# Altium integrated library stm32f4.IntLib: 4 symbols
Pins are listed as number, name and electrical type; pins without a type are passive.

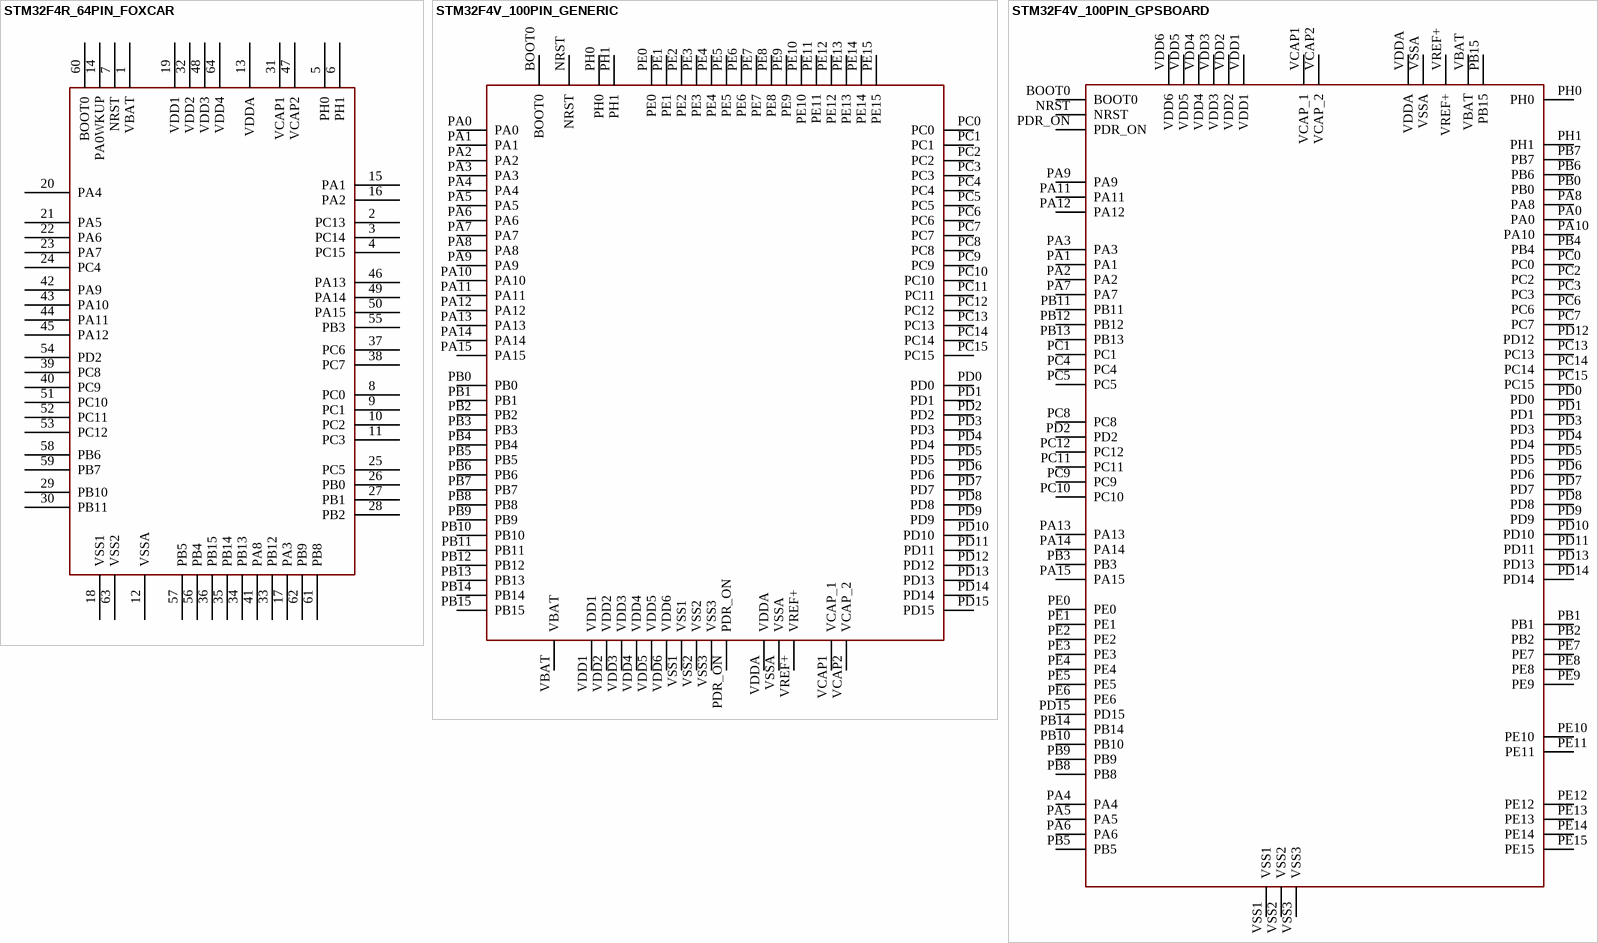
[diagram p0: symbols STM32F4R_64PIN_FOXCAR to STM32F4V_100PIN_GPSBOARD]

## STM32F4R_64PIN_FOXCAR
designator ?, comment 64-pin STM32F4 chip with symbol for Foxcar Control Board v1.  (value not drawn)
GateName_1: G$1; SymbolName_1: STM32F4_64PINS_FOXCARV1; DeviceSetName: STM32F4R_64PIN_FOXCAR; LibraryName: stm32f4; Package: LQFP64
footprint LQFP64
pins: 1 VBAT, 2 PC13, 3 PC14, 4 PC15, 5 PH0, 6 PH1, 7 NRST, 8 PC0, 9 PC1, 10 PC2, 11 PC3, 12 VSSA, 13 VDDA, 14 PA0WKUP, 15 PA1, 16 PA2, 17 PA3, 18 VSS1, 19 VDD1, 20 PA4, 21 PA5, 22 PA6, 23 PA7, 24 PC4, 25 PC5, 26 PB0, 27 PB1, 28 PB2, 29 PB10, 30 PB11, 31 VCAP1, 32 VDD2, 33 PB12, 34 PB13, 35 PB14, 36 PB15, 37 PC6, 38 PC7, 39 PC8, 40 PC9, 41 PA8, 42 PA9, 43 PA10, 44 PA11, 45 PA12, 46 PA13, 47 VCAP2, 48 VDD3, 49 PA14, 50 PA15, 51 PC10, 52 PC11, 53 PC12, 54 PD2, 55 PB3, 56 PB4, 57 PB5, 58 PB6, 59 PB7, 60 BOOT0, 61 PB8, 62 PB9, 63 VSS2, 64 VDD4

## STM32F4V_100PIN_GENERIC
designator ?
GateName_1: G$1; SymbolName_1: STM32F4_100PINS_FUNCTIONAL; DeviceSetName: STM32F4V_100PIN_GENERIC; LibraryName: stm32f4; Package: LQFP100
footprint LQFP100
pins: BOOT0, NRST, PA0, PA1, PA2, PA3, PA4, PA5, PA6, PA7, PA8, PA9, PA10, PA11, PA12, PA13, PA14, PA15, PB0, PB1, PB2, PB3, PB4, PB5, PB6, PB7, PB8, PB9, PB10, PB11, PB12, PB13, PB14, PB15, PC0, PC1, PC2, PC3, PC4, PC5, PC6, PC7, PC8, PC9, PC10, PC11, PC12, PC13, PC14, PC15, PD0, PD1, PD2, PD3, PD4, PD5, PD6, PD7, PD8, PD9, PD10, PD11, PD12, PD13, PD14, PD15, PDR_ON, PE0, PE1, PE2, PE3, PE4, PE5, PE6, PE7, PE8, PE9, PE10, PE11, PE12, PE13, PE14, PE15, PH0, PH1, VBAT, VCAP1 VCAP_1, VCAP2 VCAP_2, VDD1, VDD2, VDD3, VDD4, VDD5, VDD6, VDDA, VREF+, VSS1, VSS2, VSS3, VSSA

## STM32F4V_100PIN_GPSBOARD
designator ?, comment Custom symbol of 100-pin STM32F407 for GPS RF front-end board. Standard LQFP100 package.  (value not drawn)
GateName_1: G$1; SymbolName_1: STM32F4_100PIN_GPSBOARD; DeviceSetName: STM32F4V_100PIN_GPSBOARD; LibraryName: stm32f4; Package: LQFP100
footprint LQFP100
pins: BOOT0, NRST, PA0, PA1, PA2, PA3, PA4, PA5, PA6, PA7, PA8, PA9, PA10, PA11, PA12, PA13, PA14, PA15, PB0, PB1, PB2, PB3, PB4, PB5, PB6, PB7, PB8, PB9, PB10, PB11, PB12, PB13, PB14, PB15, PC0, PC1, PC2, PC3, PC4, PC5, PC6, PC7, PC8, PC9, PC10, PC11, PC12, PC13, PC14, PC15, PD0, PD1, PD2, PD3, PD4, PD5, PD6, PD7, PD8, PD9, PD10, PD11, PD12, PD13, PD14, PD15, PDR_ON, PE0, PE1, PE2, PE3, PE4, PE5, PE6, PE7, PE8, PE9, PE10, PE11, PE12, PE13, PE14, PE15, PH0, PH1, VBAT, VCAP1 VCAP_1, VCAP2 VCAP_2, VDD1 (power), VDD2 (power), VDD3 (power), VDD4 (power), VDD5 (power), VDD6 (power), VDDA, VREF+, VSS1 (power), VSS2 (power), VSS3 (power), VSSA

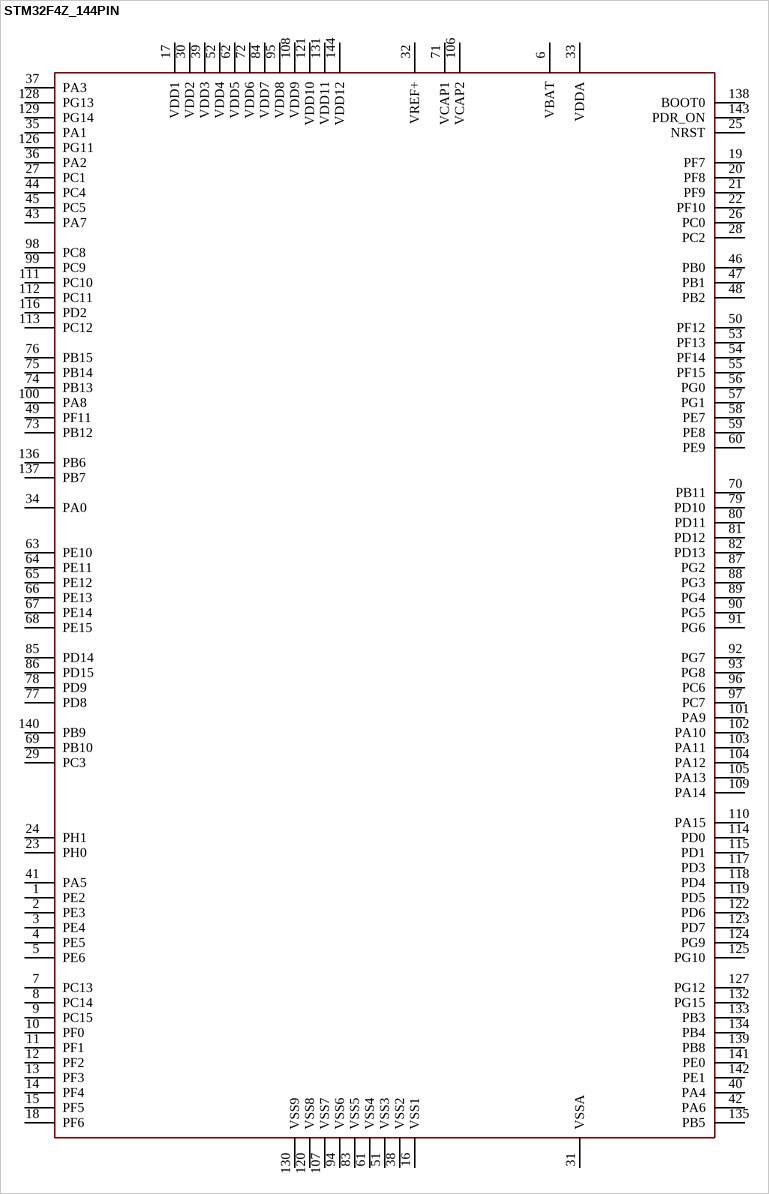
[diagram p1: symbol STM32F4Z_144PIN]

## STM32F4Z_144PIN
designator ?, comment STM32F4XX LQFP packages with actual and functional symbols.  (value not drawn)
GateName_1: G$1; SymbolName_1: STM32F4_144PINS_FUNCTIONAL; DeviceSetName: STM32F4Z_144PIN; LibraryName: stm32f4; Package: LQFP144
footprint LQFP144
pins: 1 PE2, 2 PE3, 3 PE4, 4 PE5, 5 PE6, 6 VBAT, 7 PC13, 8 PC14, 9 PC15, 10 PF0, 11 PF1, 12 PF2, 13 PF3, 14 PF4, 15 PF5, 16 VSS1, 17 VDD1, 18 PF6, 19 PF7, 20 PF8, 21 PF9, 22 PF10, 23 PH0, 24 PH1, 25 NRST, 26 PC0, 27 PC1, 28 PC2, 29 PC3, 30 VDD2, 31 VSSA, 32 VREF+, 33 VDDA, 34 PA0, 35 PA1, 36 PA2, 37 PA3, 38 VSS2, 39 VDD3, 40 PA4, 41 PA5, 42 PA6, 43 PA7, 44 PC4, 45 PC5, 46 PB0, 47 PB1, 48 PB2, 49 PF11, 50 PF12, 51 VSS3, 52 VDD4, 53 PF13, 54 PF14, 55 PF15, 56 PG0, 57 PG1, 58 PE7, 59 PE8, 60 PE9, 61 VSS4, 62 VDD5, 63 PE10, 64 PE11, 65 PE12, 66 PE13, 67 PE14, 68 PE15, 69 PB10, 70 PB11, 71 VCAP1, 72 VDD6, 73 PB12, 74 PB13, 75 PB14, 76 PB15, 77 PD8, 78 PD9, 79 PD10, 80 PD11, 81 PD12, 82 PD13, 83 VSS5, 84 VDD7, 85 PD14, 86 PD15, 87 PG2, 88 PG3, 89 PG4, 90 PG5, 91 PG6, 92 PG7, 93 PG8, 94 VSS6, 95 VDD8, 96 PC6, 97 PC7, 98 PC8, 99 PC9, 100 PA8, 101 PA9, 102 PA10, 103 PA11, 104 PA12, 105 PA13, 106 VCAP2, 107 VSS7, 108 VDD9, 109 PA14, 110 PA15, 111 PC10, 112 PC11, 113 PC12, 114 PD0, 115 PD1, 116 PD2, 117 PD3, 118 PD4, 119 PD5, 120 VSS8, 121 VDD10, 122 PD6, 123 PD7, 124 PG9, 125 PG10, 126 PG11, 127 PG12, 128 PG13, 129 PG14, 130 VSS9, 131 VDD11, 132 PG15, 133 PB3, 134 PB4, 135 PB5, 136 PB6, 137 PB7, 138 BOOT0, 139 PB8, 140 PB9, 141 PE0, 142 PE1, 143 PDR_ON, 144 VDD12